# Altium footprint library My.PcbLib: 17 footprints (part 2 of 2)
Each footprint in its own frame and in the unit in brackets; x right, y up, seen from the top. Pads: shape width x height; smd on the part's side, far side on the other; paste and mask are expansions set on the pad; w line width, h text height; cw(c..) or ccw(c..) is an arc to the next point about the centre after c.
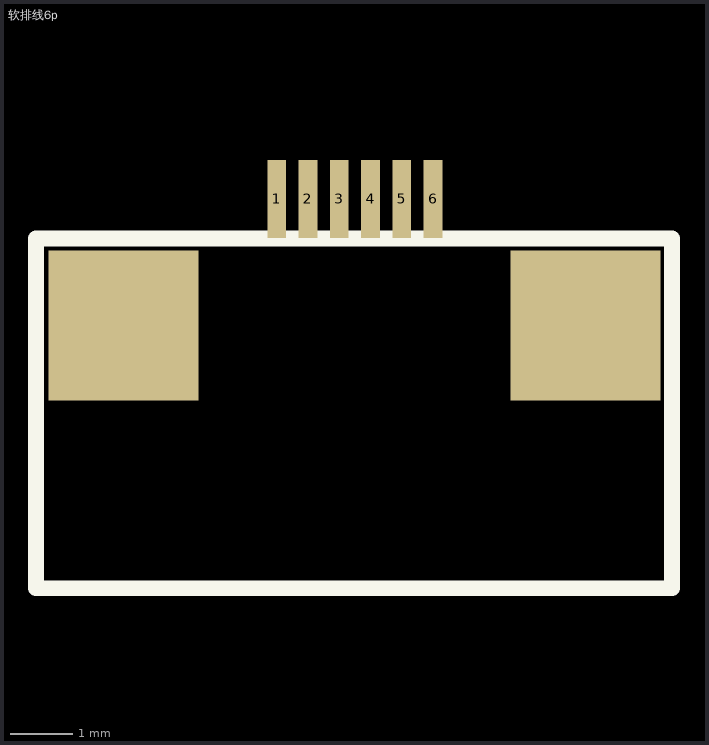
[diagram p1: the footprint, top view; thin cyan lines are the x and y axes]

## 软排线6p [mm]
pads (8):
  rect 0.3x1.25 smd: 1(4.727,-14.732) 2(5.227,-14.732) 3(5.727,-14.732) 4(6.227,-14.732) 5(6.727,-14.732) 6(7.227,-14.732)
  rect 2.4x2.4 smd: ""(2.277,-16.757) ""(9.661,-16.757)
Top Overlay:
  lines w0.254: 0.877,-20.955 11.049,-20.955 11.049,-15.367 0.877,-15.367 0.877,-20.955